# EAGLE library part SPI_BUS (library lieven)
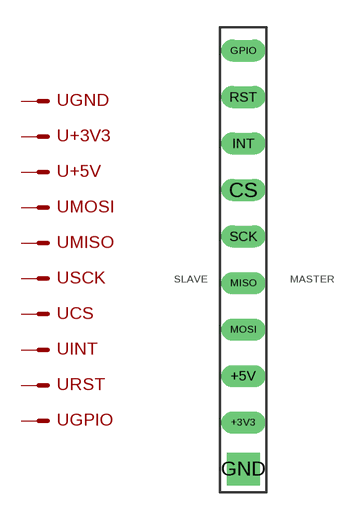
[diagram p13: symbol with the pads of SPI_BUS; footprint SPI_BUS]

Designator prefix -; gates GND=M +3V3=M +5V=M MOSI=M MISO=M SCK=M CS=M INT=M RST=M GPIO=M

## SPI_BUS  [SPI_BUS]
+3V3  +3V3:S  pas
+5V  +5V:S  pas
CS  CS:S  pas
GND  GND:S  pas
GPIO  GPIO:S  pas
INT  INT:S  pas
MISO  MISO:S  pas
MOSI  MOSI:S  pas
RST  RST:S  pas
SCK  SCK:S  pas

## Footprint SPI_BUS (pad centres in mm)
drill 0.7 long: +3V3 0,2.54; +5V 0,5.08; CS 0,15.24; GPIO 0,22.86; INT 0,17.78; MISO 0,10.16; MOSI 0,7.62; RST 0,20.32; SCK 0,12.7
drill 0.7 pad 1.778 square: GND 0,0